# EAGLE library part XR16L788IQ-F (library Exar_By_element14_Batch_1)
UART
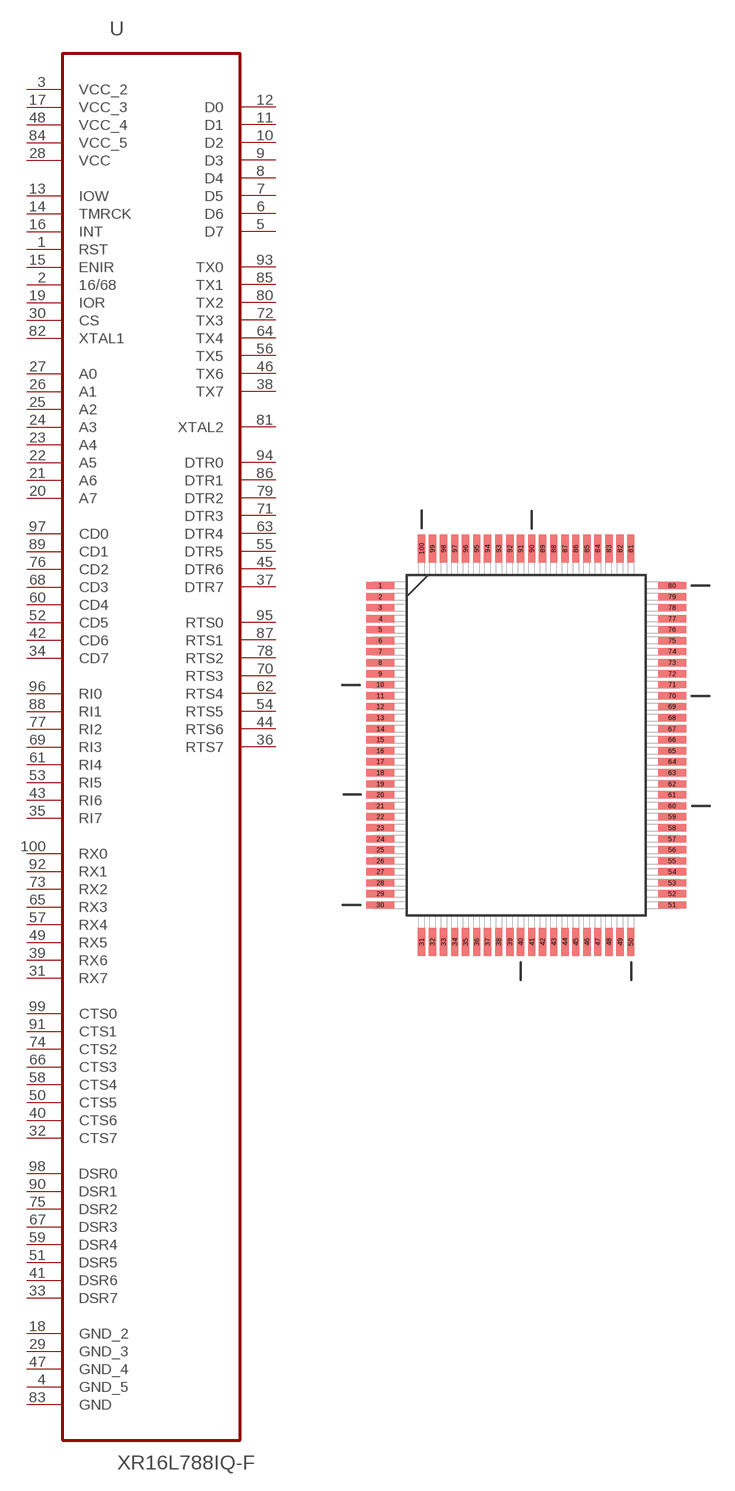
[diagram p64: symbol with the pads of QFP65P1790X2390X340-100N; footprint QFP65P1790X2390X340-100N]

Designator prefix U

## XR16L788IQ-F (MPN: XR16L788IQ-F; OC_FARNELL: 1716893; OC_NEWARK: 24R2148; PACKAGE: QFP-100; SUPPLIER: EXAR)  [QFP65P1790X2390X340-100N]
1  RST  in
2  16/68  in
3  VCC_2  pwr
4  GND_5  pas
5  D7
6  D6
7  D5
8  D4
9  D3
10  D2
11  D1
12  D0
13  IOW  in
14  TMRCK  in
15  ENIR  in
16  INT  in
17  VCC_3  pwr
18  GND_2  pas
19  IOR  in
20  A7  in
21  A6  in
22  A5  in
23  A4  in
24  A3  in
25  A2  in
26  A1  in
27  A0  in
28  VCC  pwr
29  GND_3  pas
30  CS  in
31  RX7  in
32  CTS7  in
33  DSR7  in
34  CD7  in
35  RI7  in
36  RTS7  out
37  DTR7  out
38  TX7  out
39  RX6  in
40  CTS6  in
41  DSR6  in
42  CD6  in
43  RI6  in
44  RTS6  out
45  DTR6  out
46  TX6  out
47  GND_4  pas
48  VCC_4  pwr
49  RX5  in
50  CTS5  in
51  DSR5  in
52  CD5  in
53  RI5  in
54  RTS5  out
55  DTR5  out
56  TX5  out
57  RX4  in
58  CTS4  in
59  DSR4  in
60  CD4  in
61  RI4  in
62  RTS4  out
63  DTR4  out
64  TX4  out
65  RX3  in
66  CTS3  in
67  DSR3  in
68  CD3  in
69  RI3  in
70  RTS3  out
71  DTR3  out
72  TX3  out
73  RX2  in
74  CTS2  in
75  DSR2  in
76  CD2  in
77  RI2  in
78  RTS2  out
79  DTR2  out
80  TX2  out
81  XTAL2  out
82  XTAL1  in
83  GND  pas
84  VCC_5  pwr
85  TX1  out
86  DTR1  out
87  RTS1  out
88  RI1  in
89  CD1  in
90  DSR1  out
91  CTS1  in
92  RX1  in
93  TX0  out
94  DTR0  in
95  RTS0  out
96  RI0  in
97  CD0  in
98  DSR0  in
99  CTS0  in
100  RX0  in

## Footprint QFP65P1790X2390X340-100N (pad centres in mm)
smd 1.651 x 0.432: 1 -8.611,9.423; 2 -8.611,8.763; 3 -8.611,8.128; 4 -8.611,7.468; 5 -8.611,6.833; 6 -8.611,6.172; 7 -8.611,5.537; 8 -8.611,4.877; 9 -8.611,4.216; 10 -8.611,3.581; 11 -8.611,2.921; 12 -8.611,2.286; 13 -8.611,1.626; 14 -8.611,0.965; 15 -8.611,0.33; 16 -8.611,-0.33; 17 -8.611,-0.965; 18 -8.611,-1.626; 19 -8.611,-2.286; 20 -8.611,-2.921; 21 -8.611,-3.581; 22 -8.611,-4.216; 23 -8.611,-4.877; 24 -8.611,-5.537; 25 -8.611,-6.172; 26 -8.611,-6.833; 27 -8.611,-7.468; 28 -8.611,-8.128; 29 -8.611,-8.763; 30 -8.611,-9.423; 51 8.611,-9.423; 52 8.611,-8.763; 53 8.611,-8.128; 54 8.611,-7.468; 55 8.611,-6.833; 56 8.611,-6.172; 57 8.611,-5.537; 58 8.611,-4.877; 59 8.611,-4.216; 60 8.611,-3.581; 61 8.611,-2.921; 62 8.611,-2.286; 63 8.611,-1.626; 64 8.611,-0.965; 65 8.611,-0.33; 66 8.611,0.33; 67 8.611,0.965; 68 8.611,1.626; 69 8.611,2.286; 70 8.611,2.921; 71 8.611,3.581; 72 8.611,4.216; 73 8.611,4.877; 74 8.611,5.537; 75 8.611,6.172; 76 8.611,6.833; 77 8.611,7.468; 78 8.611,8.128; 79 8.611,8.763; 80 8.611,9.423
smd 0.432 x 1.651: 31 -6.172,-11.608; 32 -5.537,-11.608; 33 -4.877,-11.608; 34 -4.216,-11.608; 35 -3.581,-11.608; 36 -2.921,-11.608; 37 -2.286,-11.608; 38 -1.626,-11.608; 39 -0.965,-11.608; 40 -0.33,-11.608; 41 0.33,-11.608; 42 0.965,-11.608; 43 1.626,-11.608; 44 2.286,-11.608; 45 2.921,-11.608; 46 3.581,-11.608; 47 4.216,-11.608; 48 4.877,-11.608; 49 5.537,-11.608; 50 6.172,-11.608; 81 6.172,11.608; 82 5.537,11.608; 83 4.877,11.608; 84 4.216,11.608; 85 3.581,11.608; 86 2.921,11.608; 87 2.286,11.608; 88 1.626,11.608; 89 0.965,11.608; 90 0.33,11.608; 91 -0.33,11.608; 92 -0.965,11.608; 93 -1.626,11.608; 94 -2.286,11.608; 95 -2.921,11.608; 96 -3.581,11.608; 97 -4.216,11.608; 98 -4.877,11.608; 99 -5.537,11.608; 100 -6.172,11.608